# EAGLE library part M06X2 (library work)
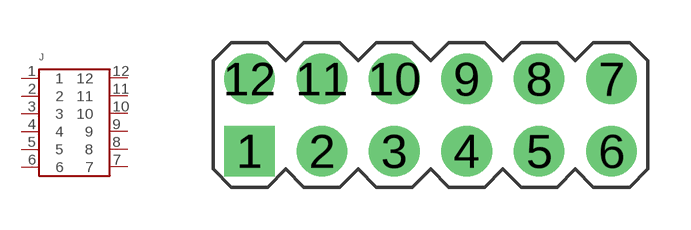
[diagram p31: symbol with the pads of M06X2; footprint M06X2]

Designator prefix J

## M06X2  [M06X2]
1  1
2  2
3  3
4  4
5  5
6  6
7  7
8  8
9  9
10  10
11  11
12  12

## Footprint M06X2 (pad centres in mm)
drill 1.016 pad 1.778 square: 1 -6.35,-1.27
drill 1.016 pad 1.778: 2 -3.81,-1.27; 3 -1.27,-1.27; 4 1.27,-1.27; 5 3.81,-1.27; 6 6.35,-1.27; 7 6.35,1.27; 8 3.81,1.27; 9 1.27,1.27; 10 -1.27,1.27; 11 -3.81,1.27; 12 -6.35,1.27